# Altium schematic symbol library sch_lib.SchLib: 7 symbols
Pins are listed as number, name and electrical type; pins without a type are passive.

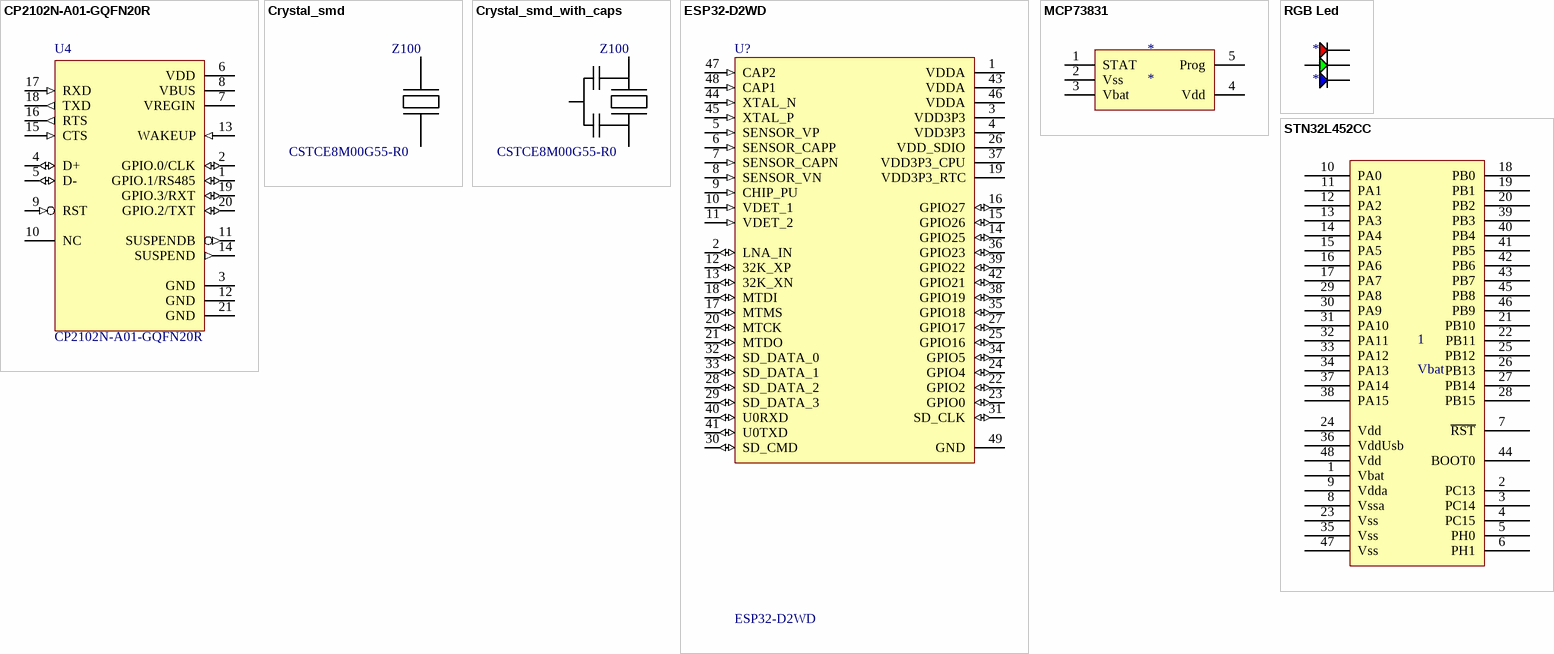
[diagram p0: symbols CP2102N-A01-GQFN20R to STN32L452CC]

## CP2102N-A01-GQFN20R
designator U4
Ic Bridge Usb To Uart 20qfn; MF: Silicon Labs; MP: CP2102N-A01-GQFN20R; Package: QFN-20 Silicon Labs; Availability: Unavailable; Price: None; SnapEDA_Link: https://www.snapeda.com/parts/CP2102N-A01-GQFN20R/Silicon%20Labs/view-part/?ref=snap; Value: *
footprint SILABS_QFN20
pins: 1 GPIO.1/RS485 (io), 2 GPIO.0/CLK (io), 3 GND (power), 4 D+ (io), 5 D- (io), 6 VDD (power), 7 VREGIN (power), 8 VBUS (power), 9 RST (in), 10 NC, 11 SUSPENDB (out), 12 GND (power), 13 WAKEUP (in), 14 SUSPEND (out), 15 CTS (in), 16 RTS (out), 17 RXD (in), 18 TXD (out), 19 GPIO.3/RXT (io), 20 GPIO.2/TXT (io), 21 GND (power)

## Crystal_smd
designator Z100, comment CSTCE8M00G55-R0
Value: CER RES 8.0000MHZ 33PF SMD; Order Number: CSTCE8M00G55-R0; Distributor: Murata Electronics; Package: 3-SMD, Non-Standard
footprint RR_CRYSTAL_3.2X1.3
pins: 1 X1, 3 X2

## Crystal_smd_with_caps
designator Z100, comment CSTCE8M00G55-R0
Value: CER RES 8.0000MHZ 33PF SMD; Order Number: CSTCE8M00G55-R0; Distributor: Murata Electronics; Package: 3-SMD, Non-Standard
footprint RR_CRYSTAL_3.2X1.3
pins: 1 X1, 2 GND, 3 X2

## ESP32-D2WD
designator U?
Smd Ic Esp32-D2wd, Dual Core Mcu; MF: Espressif Systems; Package: VFQFN-48 Espressif Systems; MP: ESP32-D2WD; SnapEDA_Link: https://www.snapeda.com/parts/ESP32-D2WD/Espressif%20Systems/view-part/?ref=snap; Price: None; Availability: Unavailable; Value: *
footprint QFN35P500X500X90-49N
pins: 1 VDDA (power), 2 LNA_IN (io), 3 VDD3P3 (power), 4 VDD3P3 (power), 5 SENSOR_VP (in), 6 SENSOR_CAPP (in), 7 SENSOR_CAPN (in), 8 SENSOR_VN (in), 9 CHIP_PU (in), 10 VDET_1 (in), 11 VDET_2 (in), 12 32K_XP (io), 13 32K_XN (io), 14 GPIO25 (io), 15 GPIO26 (io), 16 GPIO27 (io), 17 MTMS (io), 18 MTDI (io), 19 VDD3P3_RTC (power), 20 MTCK (io), 21 MTDO (io), 22 GPIO2 (io), 23 GPIO0 (io), 24 GPIO4 (io), 25 GPIO16 (io), 26 VDD_SDIO (power), 27 GPIO17 (io), 28 SD_DATA_2 (io), 29 SD_DATA_3 (io), 30 SD_CMD (io), 31 SD_CLK (io), 32 SD_DATA_0 (io), 33 SD_DATA_1 (io), 34 GPIO5 (io), 35 GPIO18 (io), 36 GPIO23 (io), 37 VDD3P3_CPU (power), 38 GPIO19 (io), 39 GPIO22 (io), 40 U0RXD (io), 41 U0TXD (io), 42 GPIO21 (io), 43 VDDA (power), 44 XTAL_N (in), 45 XTAL_P (in), 46 VDDA (power), 47 CAP2 (in), 48 CAP1 (in), 49 GND (power)

## MCP73831
designator *
pins: 1 STAT, 2 Vss, 3 Vbat, 4 Vdd, 5 Prog

## RGB Led
designator *
pins: 1 R, 2 C, 3 G, 4 B

## STN32L452CC
designator 1, comment Vbat
pins: 1 Vbat, 2 PC13, 3 PC14, 4 PC15, 5 PH0, 6 PH1, 7 ~{RST}, 8 Vssa, 9 Vdda, 10 PA0, 11 PA1, 12 PA2, 13 PA3, 14 PA4, 15 PA5, 16 PA6, 17 PA7, 18 PB0, 19 PB1, 20 PB2, 21 PB10, 22 PB11, 23 Vss, 24 Vdd, 25 PB12, 26 PB13, 27 PB14, 28 PB15, 29 PA8, 30 PA9, 31 PA10, 32 PA11, 33 PA12, 34 PA13, 35 Vss, 36 VddUsb, 37 PA14, 38 PA15, 39 PB3, 40 PB4, 41 PB5, 42 PB6, 43 PB7, 44 BOOT0, 45 PB8, 46 PB9, 47 Vss, 48 Vdd